# Altium schematic symbol library SMBTA92.Schlib: 1 symbol
Pins are listed as number, name and electrical type; pins without a type are passive.

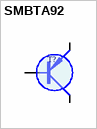
[diagram p0: symbol SMBTA92]

## SMBTA92
designator T?
SOT23  300V 0.5A 60MHz 6p(20V) (SMBT42)
pins: 1 B, 2 E (oe), 3 C (oc)
1 alternate drawing of the same symbol